# Altium footprint library SDMIO.PcbLib: 5 footprints
Each footprint in its own frame and in the unit in brackets; x right, y up, seen from the top. Pads: shape width x height; smd on the part's side, far side on the other; paste and mask are expansions set on the pad; w line width, h text height; cw(c..) or ccw(c..) is an arc to the next point about the centre after c.
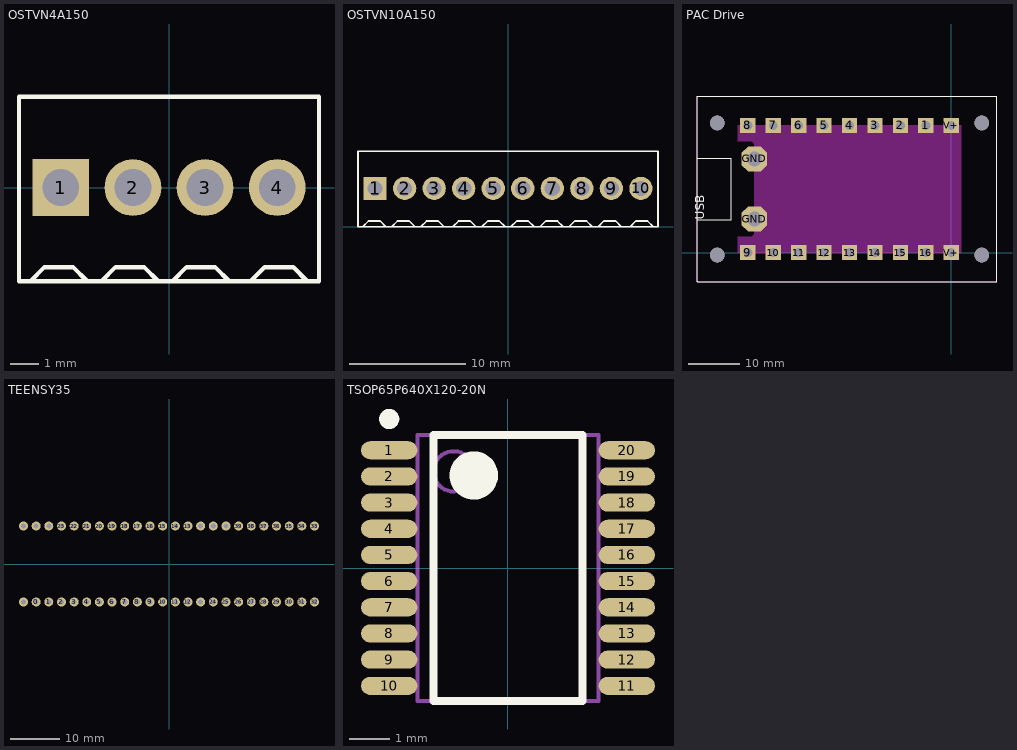
[diagram p0: the footprints below, top view; thin cyan lines are the x and y axes]

## OSTVN4A150 [mm]
pads (4):
  rect 2x2 hole 1.3: 1(-3.81,0)
  round 2 hole 1.3: 2(-1.27,0) 3(1.27,0) 4(3.81,0)
Top Overlay:
  lines w0.152: -4.88,-3.3 -4.38,-2.8 -3.38,-2.8 -2.88,-3.3 ; -2.38,-3.3 -1.88,-2.8 -0.88,-2.8 -0.38,-3.3 ; 0.12,-3.3 0.62,-2.8 1.62,-2.8 2.12,-3.3 ; 2.87,-3.3 3.37,-2.8 4.37,-2.8 4.87,-3.3 ; -5.28,-3.3 -5.28,3.2 5.28,3.2 5.28,-3.3 -5.28,-3.3
3D body "OSTVN04A150--3DModel-STEP-56544.STEP": height 8.51, standoff -3.49, extent -5.28,-3.3 5.28,3.2

## OSTVN10A150 [mm]
pads (10):
  rect 2x2 hole 1.3: 1(-11.43,3.3)
  round 2 hole 1.3: 2(-8.89,3.3) 3(-6.35,3.3) 4(-3.81,3.3) 5(-1.27,3.3) 6(1.27,3.3) 7(3.81,3.3) 8(6.35,3.3) 9(8.89,3.3) 10(11.43,3.3)
Top Overlay:
  lines w0.152: -12.5,0 -12,0.5 -11,0.5 -10.5,0 ; -10,0 -9.5,0.5 -8.5,0.5 -8,0 ; -7.5,0 -7,0.5 -6,0.5 -5.5,0 ; -4.75,0 -4.25,0.5 -3.25,0.5 -2.75,0 ; -2.25,0 -1.75,0.5 -0.75,0.5 -0.25,0 ; 0.25,0 0.75,0.5 1.75,0.5 2.25,0 ; 2.75,0 3.25,0.5 4.25,0.5 4.75,0 ; 5.25,0 5.75,0.5 6.75,0.5 7.25,0 ; 7.75,0 8.25,0.5 9.25,0.5 9.75,0 ; 10.5,0 11,0.5 12,0.5 12.5,0 ; -12.9,0 12.9,0 12.9,6.5 -12.9,6.5 -12.9,0
3D body "User Library-OSTVN10A150.step": height 8.51, standoff -3.48, extent -12.6,0.05 12.8,6.55

## PAC Drive [mm]
pads (24):
  rect 3x3 hole 1.75: 1(-5,25) 2(-10,25) 3(-15,25) 4(-20,25) 5(-25,25) 6(-30,25) 7(-35,25) 8(-40,25) 9(-40,0) 10(-35,0) 11(-30,0) 12(-25,0) 13(-20,0) 14(-15,0) 15(-10,0) 16(-5,0) V+(0,25) V+(0,0)
  oct 5x5 hole 3: GND(-38.7,6.6) GND(-38.7,18.4)
  round 2.9 hole 2.9 unplated mask+1.5: ""(-46,-0.5) ""(-46,25.5) ""(6,25.5)
  round 2.9 hole 2.9 unplated paste+0 mask+1.5: ""(6,-0.5)
Top Overlay:
  lines w0.152: -50,-5.75 -50,30.75 9,30.75 9,-5.75 -50,-5.75 ; -50,6.5 -50,18.5 -43.25,18.5 -43.25,6.5 -50,6.5
  text "USB" at -48.023,6.5 h3
Keep-Out Layer:
  board cut-out: -42,25 -42,21.9 -39.252,21.9 -38.752,21.4 -38.7,21.4 -38.7,3.6 -39.2,3.1 -42,3.1 -42,0 2,0 2,25
Mechanical 1:
  lines w0.152: -50,-5.75 -50,30.75 9,30.75 9,-5.75 -50,-5.75
3D body: height 1.57, standoff 0, extent -50,-5.75 9,30.75

## TEENSY35 [mm]
pads (48):
  round 1.8 hole 1.02: 0(-26.67,-7.62) 1(-24.13,-7.62) 2(-21.59,-7.62) 3(-19.05,-7.62) 3v3(-24.13,7.62) 3v3(6.35,-7.62) 4(-16.51,-7.62) 5(-13.97,-7.62) 6(-11.43,-7.62) 7(-8.89,-7.62) 8(-6.35,-7.62) 9(-3.81,-7.62) 10(-1.27,-7.62) 11(1.27,-7.62) 12(3.81,-7.62) 13(3.81,7.62) 14(1.27,7.62) 15(-1.27,7.62) 16(-3.81,7.62) 17(-6.35,7.62) 18(-8.89,7.62) 19(-11.43,7.62) 20(-13.97,7.62) 21(-16.51,7.62) 22(-19.05,7.62) 23(-21.59,7.62) 24(8.89,-7.62) 25(11.43,-7.62) 26(13.97,-7.62) 27(16.51,-7.62) 28(19.05,-7.62) 29(21.59,-7.62) 30(24.13,-7.62) 31(26.67,-7.62) 32(29.21,-7.62) 33(29.21,7.62) 34(26.67,7.62) 35(24.13,7.62) 36(21.59,7.62) 37(19.05,7.62) 38(16.51,7.62) 39(13.97,7.62) AGND(-26.67,7.62) DA0(11.43,7.62) DA1(8.89,7.62) GND(-29.21,-7.62) GND(6.35,7.62) VIN(-29.21,7.62)
3D body "Teensy 3_6.STEP": height 15.35, standoff 11.08, extent -30.674,-8.89 30.674,8.89
3D body "PPTC241LFBN-RC--3DModel-STEP-56544.STEP": height 8.52, standoff -3.19, extent -30.734,-8.93 30.734,-6.39
3D body "PPTC241LFBN-RC--3DModel-STEP-56544.STEP": height 8.52, standoff -3.19, extent -30.734,6.31 30.734,8.85
3D body "61302411121 (rev1).stp": height 14.07, standoff 2.53, extent -30.48,-8.87 30.48,-6.33
3D body "61302411121 (rev1).stp": height 14.07, standoff 2.53, extent -30.48,6.37 30.48,8.91

## TSOP65P640X120-20N [mm] "TSOP, 20-Leads, Body 6.50x4.40mm, Pitch 0.65mm, IPC Medium Density"
height 1.2
pads (20):
  oval 1.4x0.45 smd: 1(-2.95,2.925) 2(-2.95,2.275) 3(-2.95,1.625) 4(-2.95,0.975) 5(-2.95,0.325) 6(-2.95,-0.325) 7(-2.95,-0.975) 8(-2.95,-1.625) 9(-2.95,-2.275) 10(-2.95,-2.925) 11(2.95,-2.925) 12(2.95,-2.275) 13(2.95,-1.625) 14(2.95,-0.975) 15(2.95,-0.325) 16(2.95,0.325) 17(2.95,0.975) 18(2.95,1.625) 19(2.95,2.275) 20(2.95,2.925)
Top Overlay:
  circle w0.6: c-0.85,2.3 r0.3
  circle w0.25: c-2.95,3.7 r0.125
  lines w0.2: -1.85,-3.3 1.85,-3.3 1.85,3.3 -1.85,3.3 -1.85,-3.3
Top Assembly:
  circle w0.1: c-1.35,2.4 r0.5
  lines w0.1: -2.25,-3.3 2.25,-3.3 2.25,3.3 -2.25,3.3 -2.25,-3.3
3D body: height 1.2, standoff 0.1, extent -2.25,-3.3 2.25,3.3